# Altium schematic symbol library MIC29302WU-TR.SchLib: 2 symbols
Pins are listed as number, name and electrical type; pins without a type are passive.

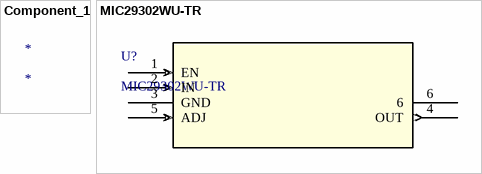
[diagram p0: symbols Component_1 to MIC29302WU-TR]

## Component_1
designator *

## MIC29302WU-TR
designator U?
No Description Available; Mfr_Name: Microchip; Copyright: Copyright (C) 2022 Ultra Librarian. All rights reserved.; Manufacturer_Part_Number: MIC29302WU-TR; RefDes: RefDes; Type: DEV
footprint TO-263-5_MCH
pins: 1 EN (in), 2 IN (in), 3 GND (power), 4 OUT (out), 5 ADJ (in), 6